# Altium schematic symbol library 7Segm4Dig.SchLib: 1 symbol
Pins are listed as number, name and electrical type; pins without a type are passive.

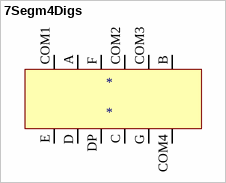
[diagram p0: symbol 7Segm4Digs]

## 7Segm4Digs
designator *
pins: A, B, C, COM1, COM2, COM3, COM4, D, DP, E, F, G